# Altium schematic symbol library UA78M33CKVURG3.SchLib: 1 symbol
Pins are listed as number, name and electrical type; pins without a type are passive.

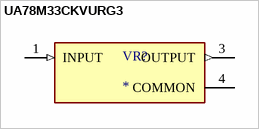
[diagram p0: symbol UA78M33CKVURG3]

## UA78M33CKVURG3
designator VR?
MP: UA78M33CKVURG3; MF: {'manufacturer': u'Texas Instruments'}; Price: None; Package: None; Availability: Unavailable; Value: *
footprint TO229P990X252-3N
pins: 1 INPUT (in), 3 OUTPUT (out), 4 COMMON (power)